# Altium footprint library Parking Sensor in FG Case6.1.PcbLib: 34 footprints (part 3 of 3)
Each footprint in its own frame and in the unit in brackets; x right, y up, seen from the top. Pads: shape width x height; smd on the part's side, far side on the other; paste and mask are expansions set on the pad; w line width, h text height; cw(c..) or ccw(c..) is an arc to the next point about the centre after c.
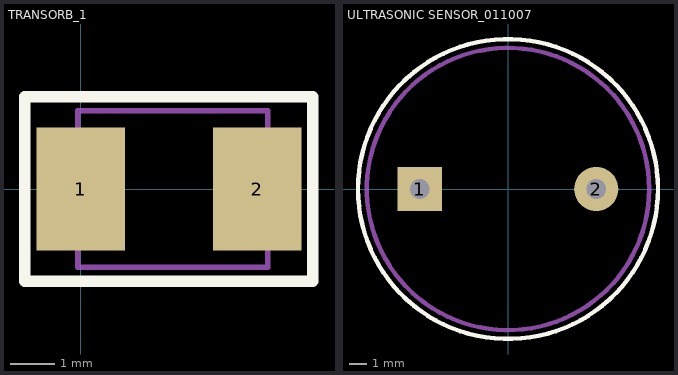
[diagram p2: the footprints below, top view; thin cyan lines are the x and y axes]

## TRANSORB_1 [mil]
pads (2):
  rect 79x110.24 smd: 1(0,0) 2(158,0)
Top Overlay:
  lines w10: -50,-82.5 207.5,-82.5 207.5,82.5 77.5,82.5 -50,82.5 -50,-82.5
Mechanical 1:
  lines w4.92: -2.5,-40 -17.5,-40 -17.5,0 -17.5,40 -2.5,40 ; 82.5,70 -2.5,70 ; 167.5,-40 182.5,-40 182.5,0 182.5,40 167.5,40 ; -2.5,70 167.5,70 167.5,-70 -2.5,-70 -2.5,70
Mechanical 8:
  text ".Designator" at 105,15 h39.37

## ULTRASONIC SENSOR_011007 [mil] "TH"
height 500
pads (2):
  rect 100x100 hole 45: 1(-200,0)
  round 100 hole 45: 2(200,0)
Top Overlay:
  circle w10: c0,0 r340
Mechanical 1:
  circle w10: c0,0 r320
Mechanical 8:
  text ".Designator" at 25,-85 h39.37